# EAGLE library part SP3485 (library FaBo-RS485)
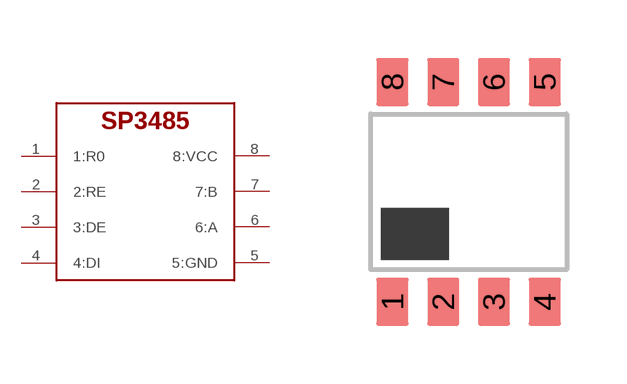
[diagram p0: symbol with the pads of NSOIC8; footprint NSOIC8]

Designator prefix -

## SP3485  [NSOIC8]
1  1:R0
2  2:RE
3  3:DE
4  4:DI
5  5:GND
6  6:A
7  7:B
8  8:VCC

## Footprint NSOIC8 (pad centres in mm)
smd 0.8 x 1.2: 1 -1.905,-2.75; 2 -0.635,-2.75; 3 0.635,-2.75; 4 1.905,-2.75; 5 1.905,2.75; 6 0.635,2.75; 7 -0.635,2.75; 8 -1.905,2.75